# EAGLE library part K7Q161862B (library K7Q161862B)
SAMSUNG 1Mx18bit QDR SRAM
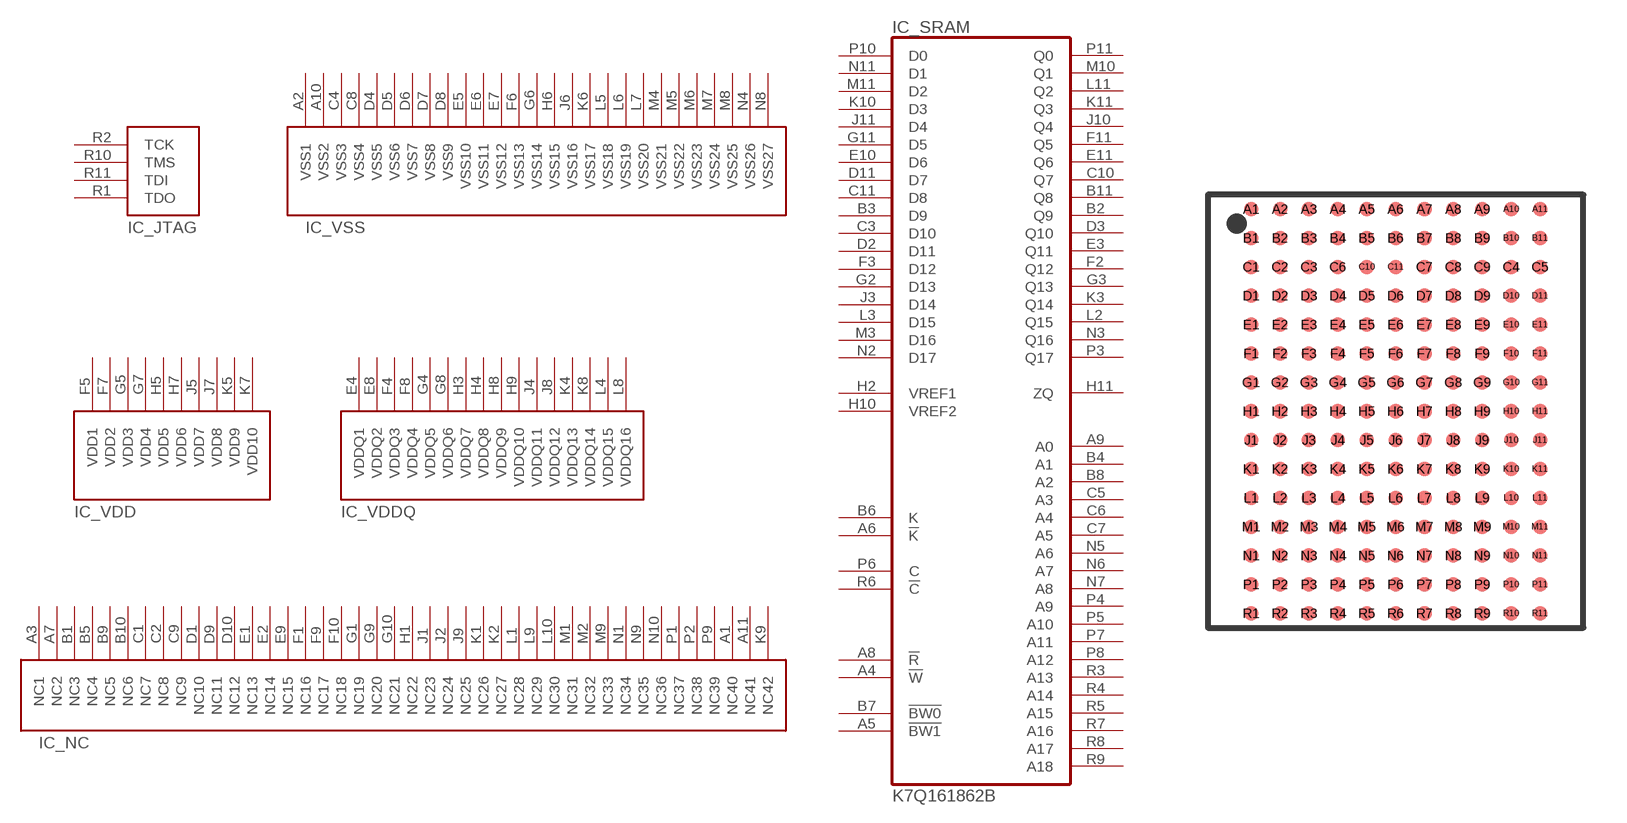
[diagram p0: symbol with the pads of FBGA165; footprint FBGA165]

Designator prefix IC; gates _JTAG=JTAG _NC=NC _VDD=VDD _VDDQ=VDDQ _VSS=VSS _SRAM=K7Q161862B

## K7Q161862B_FBGA165  [FBGA165]
A1  _NC:NC40  nc
A2  _VSS:VSS1  pwr
A3  _NC:NC1  nc
A4  _SRAM:!W  in
A5  _SRAM:!BW1  in
A6  _SRAM:!K  in
A7  _NC:NC2  nc
A8  _SRAM:!R  in
A9  _SRAM:A0  in
A10  _VSS:VSS2  pwr
A11  _NC:NC41  nc
B1  _NC:NC3  nc
B2  _SRAM:Q9  out
B3  _SRAM:D9  in
B4  _SRAM:A1  in
B5  _NC:NC4  nc
B6  _SRAM:K  in
B7  _SRAM:!BW0  in
B8  _SRAM:A2  in
B9  _NC:NC5  nc
B10  _NC:NC6  nc
B11  _SRAM:Q8  out
C1  _NC:NC7  nc
C2  _NC:NC8  nc
C3  _SRAM:D10  in
C4  _VSS:VSS3  pwr
C5  _SRAM:A3  in
C6  _SRAM:A4  in
C7  _SRAM:A5  in
C8  _VSS:VSS4  pwr
C9  _NC:NC9  nc
C10  _SRAM:Q7  out
C11  _SRAM:D8  in
D1  _NC:NC10  nc
D2  _SRAM:D11  in
D3  _SRAM:Q10  out
D4  _VSS:VSS5  pwr
D5  _VSS:VSS6  pwr
D6  _VSS:VSS7  pwr
D7  _VSS:VSS8  pwr
D8  _VSS:VSS9  pwr
D9  _NC:NC11  nc
D10  _NC:NC12  nc
D11  _SRAM:D7  in
E1  _NC:NC13  nc
E2  _NC:NC14  nc
E3  _SRAM:Q11  out
E4  _VDDQ:VDDQ1  pwr
E5  _VSS:VSS10  pwr
E6  _VSS:VSS11  pwr
E7  _VSS:VSS12  pwr
E8  _VDDQ:VDDQ2  pwr
E9  _NC:NC15  nc
E10  _SRAM:D6  in
E11  _SRAM:Q6  out
F1  _NC:NC16  nc
F2  _SRAM:Q12  out
F3  _SRAM:D12  in
F4  _VDDQ:VDDQ3  pwr
F5  _VDD:VDD1  pwr
F6  _VSS:VSS13  pwr
F7  _VDD:VDD2  pwr
F8  _VDDQ:VDDQ4  pwr
F9  _NC:NC17  nc
F10  _NC:NC18  nc
F11  _SRAM:Q5  out
G1  _NC:NC19  nc
G2  _SRAM:D13  in
G3  _SRAM:Q13  out
G4  _VDDQ:VDDQ5  pwr
G5  _VDD:VDD3  pwr
G6  _VSS:VSS14  pwr
G7  _VDD:VDD4  pwr
G8  _VDDQ:VDDQ6  pwr
G9  _NC:NC20  nc
G10  _NC:NC21  nc
G11  _SRAM:D5  in
H1  _NC:NC22  nc
H2  _SRAM:VREF1  pwr
H3  _VDDQ:VDDQ7  pwr
H4  _VDDQ:VDDQ8  pwr
H5  _VDD:VDD5  pwr
H6  _VSS:VSS15  pwr
H7  _VDD:VDD6  pwr
H8  _VDDQ:VDDQ9  pwr
H9  _VDDQ:VDDQ10  pwr
H10  _SRAM:VREF2  pwr
H11  _SRAM:ZQ  pwr
J1  _NC:NC23  nc
J2  _NC:NC24  nc
J3  _SRAM:D14  in
J4  _VDDQ:VDDQ11  pwr
J5  _VDD:VDD7  pwr
J6  _VSS:VSS16  pwr
J7  _VDD:VDD8  pwr
J8  _VDDQ:VDDQ12  pwr
J9  _NC:NC25  nc
J10  _SRAM:Q4  out
J11  _SRAM:D4  in
K1  _NC:NC26  nc
K2  _NC:NC27  nc
K3  _SRAM:Q14  out
K4  _VDDQ:VDDQ13  pwr
K5  _VDD:VDD9  pwr
K6  _VSS:VSS17  pwr
K7  _VDD:VDD10  pwr
K8  _VDDQ:VDDQ14  pwr
K9  _NC:NC42  nc
K10  _SRAM:D3  in
K11  _SRAM:Q3  out
L1  _NC:NC28  nc
L2  _SRAM:Q15  out
L3  _SRAM:D15  in
L4  _VDDQ:VDDQ15  pwr
L5  _VSS:VSS18  pwr
L6  _VSS:VSS19  pwr
L7  _VSS:VSS20  pwr
L8  _VDDQ:VDDQ16  pwr
L9  _NC:NC29  nc
L10  _NC:NC30  nc
L11  _SRAM:Q2  out
M1  _NC:NC31  nc
M2  _NC:NC32  nc
M3  _SRAM:D16  in
M4  _VSS:VSS21  pwr
M5  _VSS:VSS22  pwr
M6  _VSS:VSS23  pwr
M7  _VSS:VSS24  pwr
M8  _VSS:VSS25  pwr
M9  _NC:NC33  nc
M10  _SRAM:Q1  out
M11  _SRAM:D2  in
N1  _NC:NC34  nc
N2  _SRAM:D17  in
N3  _SRAM:Q16  out
N4  _VSS:VSS26  pwr
N5  _SRAM:A6  in
N6  _SRAM:A7  in
N7  _SRAM:A8  in
N8  _VSS:VSS27  pwr
N9  _NC:NC35  nc
N10  _NC:NC36  nc
N11  _SRAM:D1  in
P1  _NC:NC37  nc
P2  _NC:NC38  nc
P3  _SRAM:Q17  out
P4  _SRAM:A9  in
P5  _SRAM:A10  in
P6  _SRAM:C  in
P7  _SRAM:A11  in
P8  _SRAM:A12  in
P9  _NC:NC39  nc
P10  _SRAM:D0  in
P11  _SRAM:Q0  out
R1  _JTAG:TDO  out
R2  _JTAG:TCK  in
R3  _SRAM:A13  in
R4  _SRAM:A14  in
R5  _SRAM:A15  in
R6  _SRAM:!C  in
R7  _SRAM:A16  in
R8  _SRAM:A17  in
R9  _SRAM:A18  in
R10  _JTAG:TMS  in
R11  _JTAG:TDI  in

## Footprint FBGA165 (pad centres in mm)
BGA165
smd 0.5 x 0.5: A1 -4.5,6.5; A2 -3.5,6.5; A3 -2.5,6.5; A4 -1.5,6.5; A5 -0.5,6.5; A6 0.5,6.5; A7 1.5,6.5; A8 2.5,6.5; A9 3.5,6.5; A10 4.5,6.5; A11 5.5,6.5; B1 -4.5,5.5; B2 -3.5,5.5; B3 -2.5,5.5; B4 -1.5,5.5; B5 -0.5,5.5; B6 0.5,5.5; B7 1.5,5.5; B8 2.5,5.5; B9 3.5,5.5; B10 4.5,5.5; B11 5.5,5.5; C1 -4.5,4.5; C2 -3.5,4.5; C3 -2.5,4.5; C4 4.5,4.5; C5 5.5,4.5; C6 -1.5,4.5; C7 1.5,4.5; C8 2.5,4.5; C9 3.5,4.5; C10 -0.5,4.5; C11 0.5,4.5; D1 -4.5,3.5; D2 -3.5,3.5; D3 -2.5,3.5; D4 -1.5,3.5; D5 -0.5,3.5; D6 0.5,3.5; D7 1.5,3.5; D8 2.5,3.5; D9 3.5,3.5; D10 4.5,3.5; D11 5.5,3.5; E1 -4.5,2.5; E2 -3.5,2.5; E3 -2.5,2.5; E4 -1.5,2.5; E5 -0.5,2.5; E6 0.5,2.5; E7 1.5,2.5; E8 2.5,2.5; E9 3.5,2.5; E10 4.5,2.5; E11 5.5,2.5; F1 -4.5,1.5; F2 -3.5,1.5; F3 -2.5,1.5; F4 -1.5,1.5; F5 -0.5,1.5; F6 0.5,1.5; F7 1.5,1.5; F8 2.5,1.5; F9 3.5,1.5; F10 4.5,1.5; F11 5.5,1.5; G1 -4.5,0.5; G2 -3.5,0.5; G3 -2.5,0.5; G4 -1.5,0.5; G5 -0.5,0.5; G6 0.5,0.5; G7 1.5,0.5; G8 2.5,0.5; G9 3.5,0.5; G10 4.5,0.5; G11 5.5,0.5; H1 -4.5,-0.5; H2 -3.5,-0.5; H3 -2.5,-0.5; H4 -1.5,-0.5; H5 -0.5,-0.5; H6 0.5,-0.5; H7 1.5,-0.5; H8 2.5,-0.5; H9 3.5,-0.5; H10 4.5,-0.5; H11 5.5,-0.5; J1 -4.5,-1.5; J2 -3.5,-1.5; J3 -2.5,-1.5; J4 -1.5,-1.5; J5 -0.5,-1.5; J6 0.5,-1.5; J7 1.5,-1.5; J8 2.5,-1.5; J9 3.5,-1.5; J10 4.5,-1.5; J11 5.5,-1.5; K1 -4.5,-2.5; K2 -3.5,-2.5; K3 -2.5,-2.5; K4 -1.5,-2.5; K5 -0.5,-2.5; K6 0.5,-2.5; K7 1.5,-2.5; K8 2.5,-2.5; K9 3.5,-2.5; K10 4.5,-2.5; K11 5.5,-2.5; L1 -4.5,-3.5; L2 -3.5,-3.5; L3 -2.5,-3.5; L4 -1.5,-3.5; L5 -0.5,-3.5; L6 0.5,-3.5; L7 1.5,-3.5; L8 2.5,-3.5; L9 3.5,-3.5; L10 4.5,-3.5; L11 5.5,-3.5; M1 -4.5,-4.5; M2 -3.5,-4.5; M3 -2.5,-4.5; M4 -1.5,-4.5; M5 -0.5,-4.5; M6 0.5,-4.5; M7 1.5,-4.5; M8 2.5,-4.5; M9 3.5,-4.5; M10 4.5,-4.5; M11 5.5,-4.5; N1 -4.5,-5.5; N2 -3.5,-5.5; N3 -2.5,-5.5; N4 -1.5,-5.5; N5 -0.5,-5.5; N6 0.5,-5.5; N7 1.5,-5.5; N8 2.5,-5.5; N9 3.5,-5.5; N10 4.5,-5.5; N11 5.5,-5.5; P1 -4.5,-6.5; P2 -3.5,-6.5; P3 -2.5,-6.5; P4 -1.5,-6.5; P5 -0.5,-6.5; P6 0.5,-6.5; P7 1.5,-6.5; P8 2.5,-6.5; P9 3.5,-6.5; P10 4.5,-6.5; P11 5.5,-6.5; R1 -4.5,-7.5; R2 -3.5,-7.5; R3 -2.5,-7.5; R4 -1.5,-7.5; R5 -0.5,-7.5; R6 0.5,-7.5; R7 1.5,-7.5; R8 2.5,-7.5; R9 3.5,-7.5; R10 4.5,-7.5; R11 5.5,-7.5